# Altium footprint library SMA.PcbLib: 1 footprints
Each footprint in its own frame and in the unit in brackets; x right, y up, seen from the top. Pads: shape width x height; smd on the part's side, far side on the other; paste and mask are expansions set on the pad; w line width, h text height; cw(c..) or ccw(c..) is an arc to the next point about the centre after c.
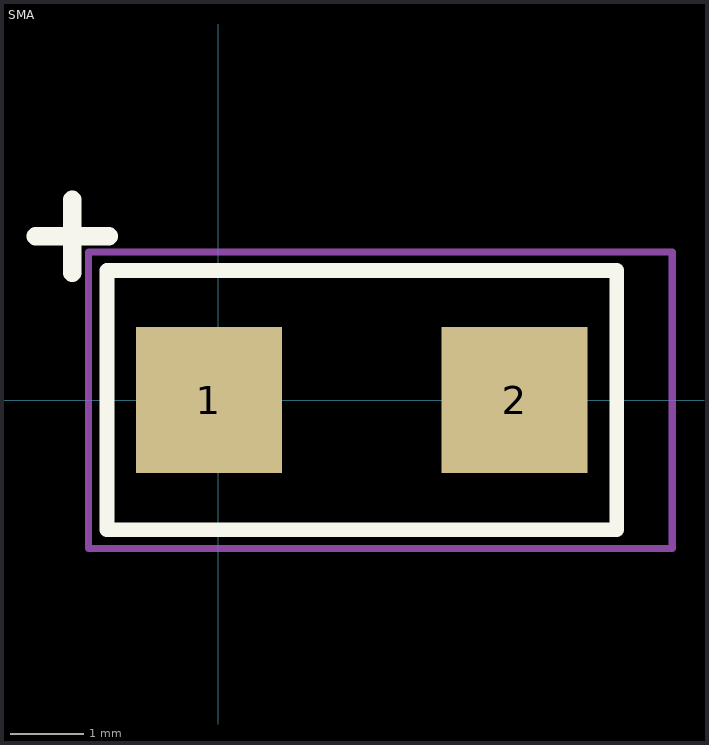
[diagram p0: the footprint, top view; thin cyan lines are the x and y axes]

## SMA [mm]
height 3
pads (2):
  rect 2x2 smd: 1(-0.127,0) 2(4.064,0)
Top Overlay:
  lines w0.2: -1.524,-1.778 5.461,-1.778 5.461,1.778 -1.524,1.778 -1.524,-1.778
  lines w0.254: -2.5,2.25 -1.5,2.25 ; -2,1.75 -2,2.75
Mechanical 15:
  lines w0.1: -1.778,-2.032 6.223,-2.032 6.223,2.032 -1.778,2.032 -1.778,-2.032
3D body "DO-214AC_SMA.step": height -0.45, standoff -2.65, extent -0.5,-1.35 4.5,1.35